# EAGLE library part MC34152 (library HyTechDevices)
Microchip MC34152 High Speed Dual MOSFET Driver
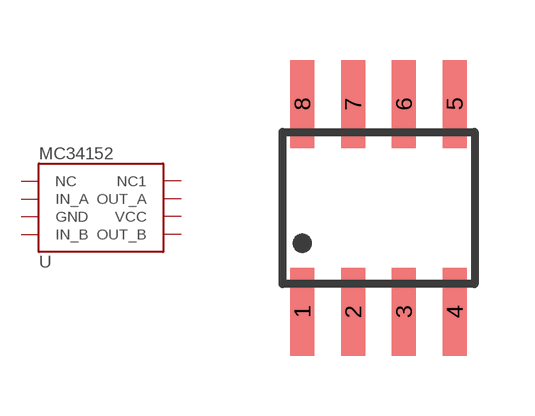
[diagram p12: symbol with the pads of SOIC-08; footprint SOIC-08]

Designator prefix -

## MC34152  [SOIC-08]
1  NC  hiz
2  IN_A  in
3  GND  pwr
4  IN_B
5  OUT_B  out
6  VCC  pwr
7  OUT_A  out
8  NC1  hiz

## Footprint SOIC-08 (pad centres in mm)
SMALL OUTLINE INTEGRATED CIRCUIT
smd 0.6 x 2.2: 1 -1.905,-2.6; 2 -0.635,-2.6; 3 0.635,-2.6; 4 1.905,-2.6; 5 1.905,2.6; 6 0.635,2.6; 7 -0.635,2.6; 8 -1.905,2.6